# Altium schematic symbol library NCP11187A065PG.SchLib: 1 symbol
Pins are listed as number, name and electrical type; pins without a type are passive.

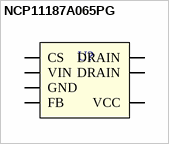
[diagram p0: symbol NCP11187A065PG]

## NCP11187A065PG
designator U?
pins: 1 CS, 2 VIN (power), 3 GND (power), 4 FB, 5 VCC, 7 DRAIN, 8 DRAIN